# Altium schematic symbol library Discrete_Diodes_Zenner_GOST.SchLib: 2 symbols
Pins are listed as number, name and electrical type; pins without a type are passive.

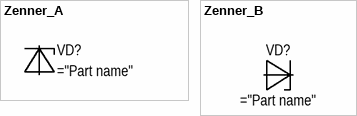
[diagram p0: symbols Zenner_A to Zenner_B]

## Zenner_A
designator VD?
pins: 1, 2

## Zenner_B
designator VD?
pins: 1, 2